# Altium footprint library GRITS Pi Hat.PcbLib: 1 footprints
Each footprint in its own frame and in the unit in brackets; x right, y up, seen from the top. Pads: shape width x height; smd on the part's side, far side on the other; paste and mask are expansions set on the pad; w line width, h text height; cw(c..) or ccw(c..) is an arc to the next point about the centre after c.
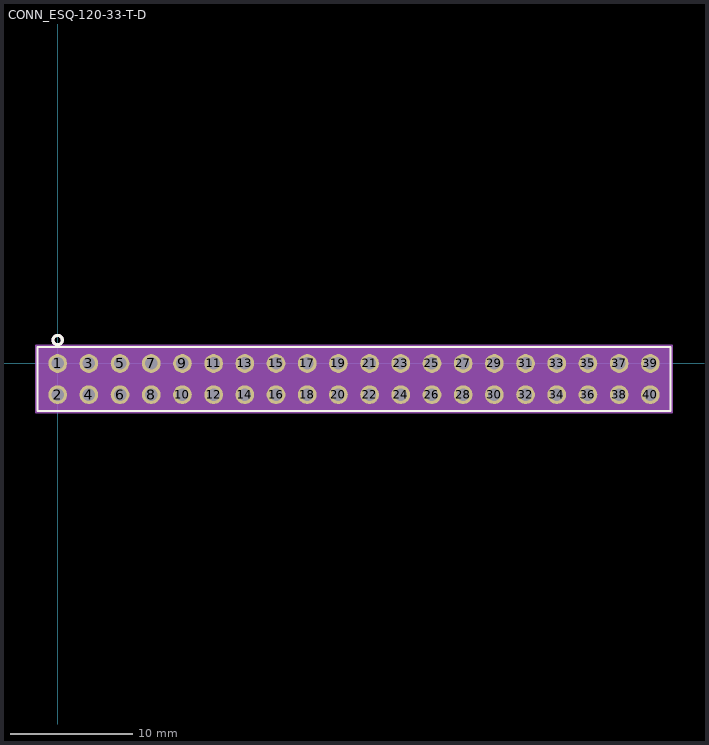
[diagram p0: the footprint, top view; thin cyan lines are the x and y axes]

## CONN_ESQ-120-33-T-D [mil]
pads (40):
  round 60 hole 40 paste-99999 mask+0: 1(0,0) 2(0,-100) 3(100,0) 4(100,-100) 5(200,0) 6(200,-100) 7(300,0) 8(300,-100) 9(400,0) 10(400,-100) 11(500,0) 12(500,-100) 13(600,0) 14(600,-100) 15(700,0) 16(700,-100) 17(800,0) 18(800,-100) 19(900,0) 20(900,-100) 21(1000,0) 22(1000,-100) 23(1100,0) 24(1100,-100) 25(1200,0) 26(1200,-100) 27(1300,0) 28(1300,-100) 29(1400,0) 30(1400,-100) 31(1500,0) 32(1500,-100) 33(1600,0) 34(1600,-100) 35(1700,0) 36(1700,-100) 37(1800,0) 38(1800,-100) 39(1900,0) 40(1900,-100)
Top Overlay:
  circle w10: c0,75 r15
  lines w6: -65,-152.5 -65,52.5 1965,52.5 1965,-152.5 -65,-152.5
Bottom Overlay:
  circle w0: c0,75 r15
Mechanical 13:
  circle w10: c0,75 r15
  lines w1: -60,-147.5 -60,47.5 1960,47.5 1960,-147.5 -60,-147.5
Mechanical 15:
  region: 1970,57.5 -70,57.5 -70,-157.5 1970,-157.5
  lines w6: -70,-157.5 1970,-157.5 1970,57.5 -70,57.5 -70,-157.5
3D body "esq-120-33-t-d.stp": height 635.5, standoff -89.5, extent -60,-150 1960,50